# Altium footprint library Mosfet.PcbLib: 2 footprints
Each footprint in its own frame and in the unit in brackets; x right, y up, seen from the top. Pads: shape width x height; smd on the part's side, far side on the other; paste and mask are expansions set on the pad; w line width, h text height; cw(c..) or ccw(c..) is an arc to the next point about the centre after c.
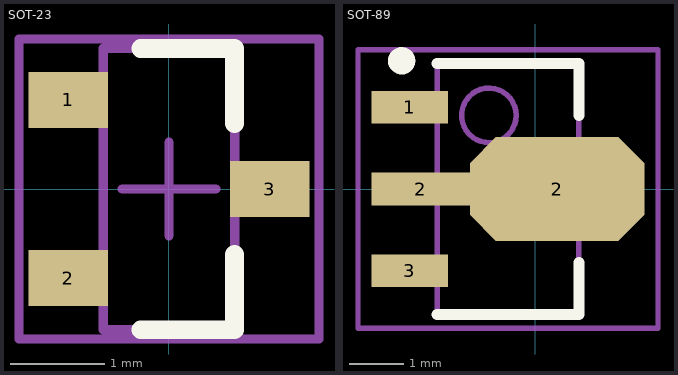
[diagram p0: the footprints below, top view; thin cyan lines are the x and y axes]

## SOT-23 [mm]
pads (3):
  rect 0.85x0.6 smd: 1(-1.075,0.95) 2(-1.075,-0.95) 3(1.075,0)
Top Overlay:
  lines w0.2: -0.3,-1.5 0.7,-1.5 0.7,-0.7 ; -0.3,1.5 0.7,1.5 0.7,0.7
Mechanical 13:
  lines w0.1: -0.7,-1.5 0.7,-1.5 0.7,1.5 -0.7,1.5 -0.7,-1.5
Mechanical 15:
  lines w0.1: -0.5,0 0.5,0 ; 0,-0.5 0,0.5 ; -1.6,-1.6 1.6,-1.6 1.6,1.6 -1.6,1.6 -1.6,-1.6
3D body "SOT23.step": height 1.05, standoff -0.05, extent -1.25,-1.5 1.25,1.5

## SOT-89 [mm]
pads (4):
  rect 1.4x0.6 smd: 1(-2.3,1.5) 3(-2.3,-1.5)
  rect 1.8x0.6 smd: 2(-2.1,0)
  oct 3.2x1.9 smd: 2(0.4,0)
Top Overlay:
  circle w0.25: c-2.45,2.35 r0.125
  lines w0.2: -1.8,-2.3 0.8,-2.3 0.8,-1.35 ; -1.8,2.3 0.8,2.3 0.8,1.35
Mechanical 13:
  circle w0.1: c-0.85,1.35 r0.5
  lines w0.1: -1.8,-2.3 -1.8,2.3 0.8,2.3 0.8,-2.3 -1.8,-2.3
Mechanical 15:
  lines w0.1: -1,0 0,0 ; -0.5,-0.5 -0.5,0.5 ; -3.25,-2.55 -3.25,2.55 2.25,2.55 2.25,-2.55 -3.25,-2.55
3D body "SOT89-3.STEP": height 1.54, standoff 0, extent -2.75,-2.25 1.5,2.25